# Altium footprint library CONECTER.PcbLib: 145 footprints (part 7 of 10)
Each footprint in its own frame and in the unit in brackets; x right, y up, seen from the top. Pads: shape width x height; smd on the part's side, far side on the other; paste and mask are expansions set on the pad; w line width, h text height; cw(c..) or ccw(c..) is an arc to the next point about the centre after c.
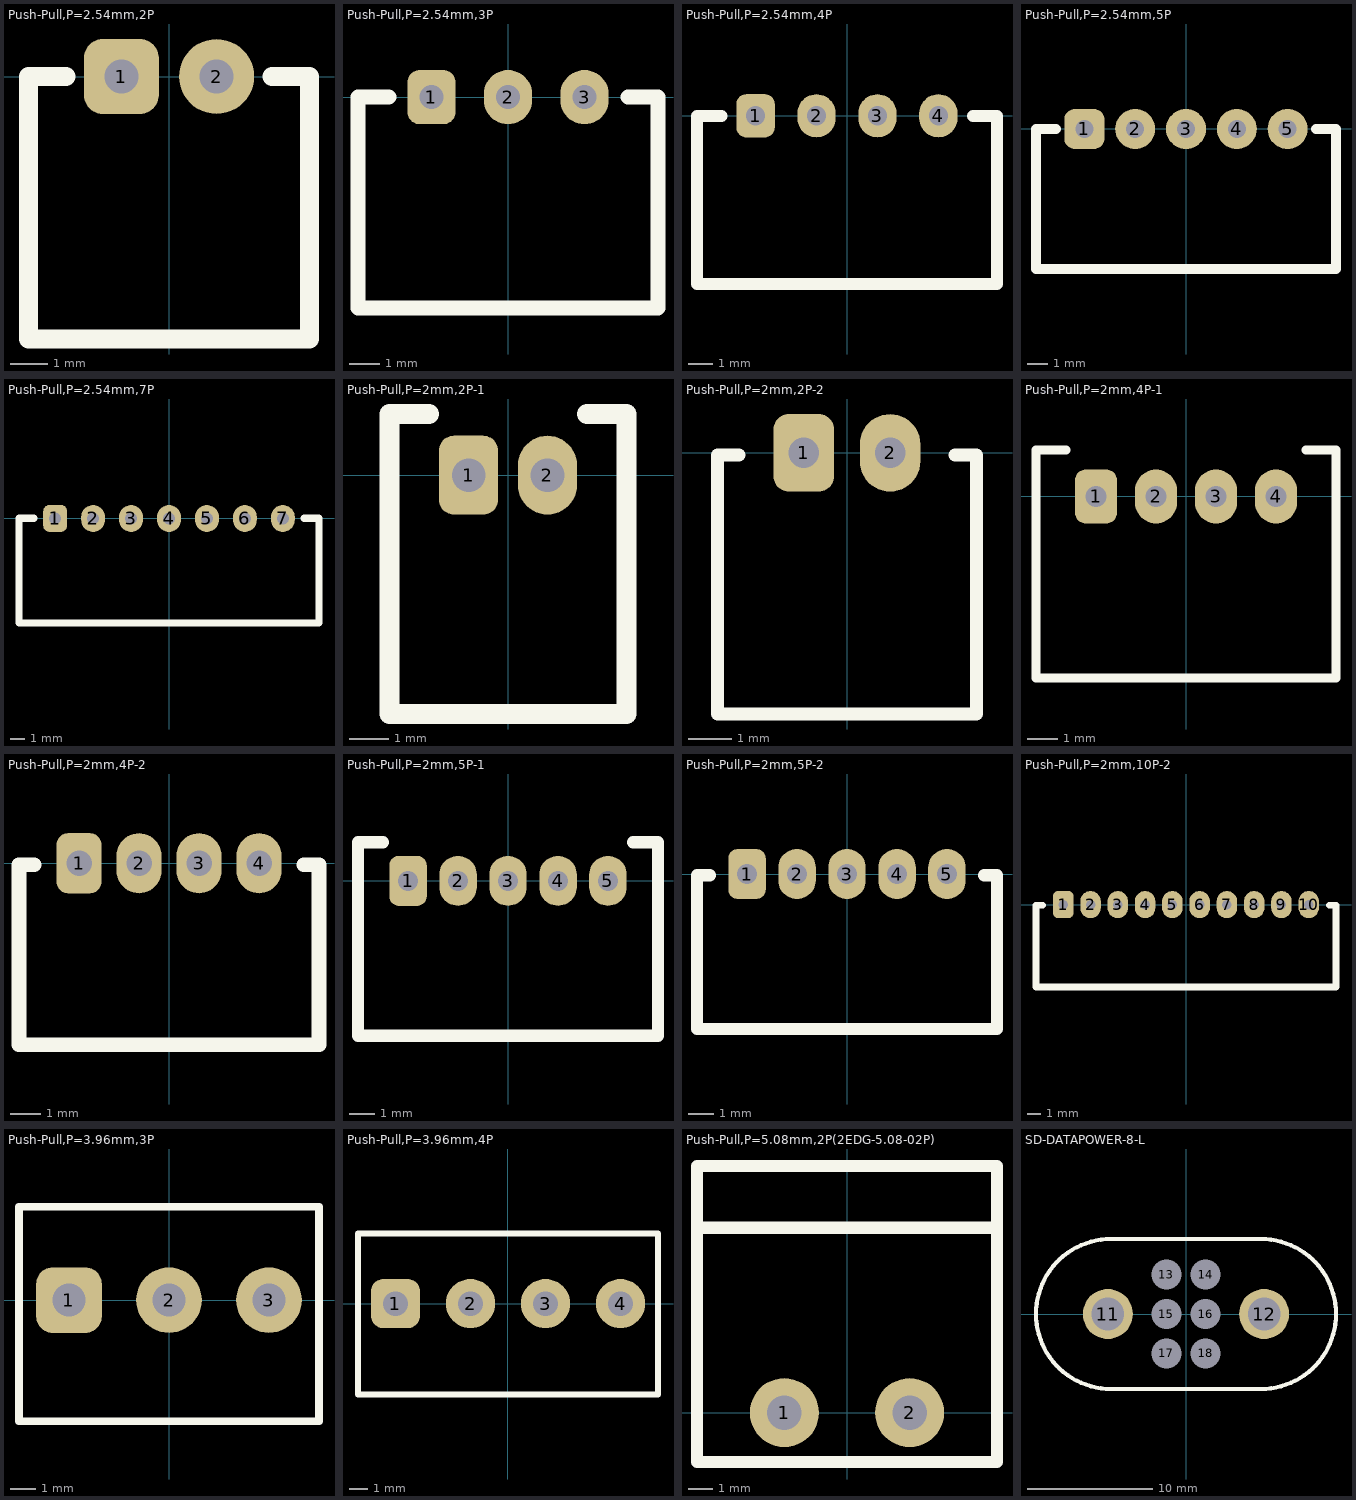
[diagram p6: the footprints below, top view; thin cyan lines are the x and y axes]

## Push-Pull,P=2.54mm,2P [mm]
pads (2):
  rrect50% 2x2 hole 0.9 mask+0.1: 1(-1.27,0)
  round 2 hole 0.9 mask+0.1: 2(1.27,0)
Top Overlay:
  lines w0.5: -2.75,0 -3.75,0 -3.75,-7 3.75,-7 3.75,0 2.75,0
3D body "JST - XH - Thru (R) - 2Pin - 2.54mm.stp": height 5.84, standoff -3.38, extent -3.607,-7.534 3.607,0.503

## Push-Pull,P=2.54mm,3P [mm]
pads (3):
  rrect50% 1.6x1.8 hole 0.8 mask+0.1: 1(-2.54,0)
  oval 1.6x1.8 hole 0.8 mask+0.1: 2(0,0) 3(2.54,0)
Top Overlay:
  lines w0.5: -4.98,0 -4.98,-7 4.98,-7 4.98,0 3.98,0 ; -4.96,0 -3.96,0
3D body "JST - XH - Thru R - 3Pin - 2.54mm.stp": height 5.84, standoff -3.38, extent -4.877,-7.534 4.877,0.503

## Push-Pull,P=2.54mm,4P [mm]
pads (4):
  rrect50% 1.6x1.8 hole 0.8 mask+0.1: 1(-3.81,0)
  oval 1.6x1.8 hole 0.8 mask+0.1: 2(-1.27,0) 3(1.27,0) 4(3.81,0)
Top Overlay:
  lines w0.5: -6.25,0 -6.25,-7 6.25,-7 6.25,0 5.25,0 ; -6.23,0 -5.23,0
3D body "JST - XH - Thru R - 4Pin - 2.54mm.stp": height 5.84, standoff -3.38, extent -6.147,-7.534 6.147,0.503

## Push-Pull,P=2.54mm,5P [mm]
pads (5):
  rrect50% 2x2 hole 0.9 mask+0.1: 1(-5.08,0)
  round 2 hole 0.9 mask+0.1: 2(-2.54,0) 3(0,0) 4(2.54,0) 5(5.08,0)
Top Overlay:
  lines w0.5: -6.5,0 -7.5,0 -7.5,-7 7.5,-7 7.5,0 6.5,0
3D body "JST - XH - Thru R - 5Pin - 2.54mm.stp": height 5.84, standoff -3.38, extent -7.417,-7.534 7.417,0.503

## Push-Pull,P=2.54mm,7P [mm]
pads (7):
  rrect50% 1.6x1.8 hole 0.8 mask+0.1: 1(-7.62,0)
  oval 1.6x1.8 hole 0.8 mask+0.1: 2(-5.08,0) 3(-2.54,0) 4(0,0) 5(2.54,0) 6(5.08,0) 7(7.62,0)
Top Overlay:
  lines w0.5: -9.04,0 -10.04,0 -10.04,-7 10.04,-7 10.04,0 9.04,0
3D body "JST - XH - Thru (R) - 7Pin - 2.54mm.stp": height 5.84, standoff -3.38, extent -9.957,-7.034 9.957,1.003

## Push-Pull,P=2mm,2P-1 [mm]
pads (2):
  rrect50% 1.5x2 hole 0.85: 1(-1,0)
  oval 1.5x2 hole 0.85: 2(1,0)
Top Overlay:
  lines w0.5: -2,1.55 -3,1.55 -3,-6.05 3,-6.05 3,1.55 2,1.55
3D body "JST-S2B-PH-K-S.STEP": height 4.8, standoff -3.4, extent -2.95,-6.1 2.95,1.5

## Push-Pull,P=2mm,2P-2 [mm]
pads (2):
  rrect50% 1.4x1.8 hole 0.7: 1(-1,0)
  oval 1.4x1.8 hole 0.7: 2(1,0)
Top Overlay:
  lines w0.3: -2.5,-0.05 -3,-0.05 -3,-6.05 3,-6.05 3,-0.05 2.5,-0.05
3D body "JST-S2B-PH-K-S.STEP": height 4.8, standoff -3.4, extent -2.95,-6.1 2.95,1.5

## Push-Pull,P=2mm,4P-1 [mm]
pads (4):
  rrect50% 1.4x1.8 hole 0.7: 1(-3,0)
  oval 1.4x1.8 hole 0.7: 2(-1,0) 3(1,0) 4(3,0)
Top Overlay:
  lines w0.3: -4,1.55 -5,1.55 -5,-6.05 5,-6.05 5,1.55 4,1.55
3D body "JST-S4B-PH-K-S.STEP": height 4.8, standoff -3.4, extent -4.95,-6.05 4.95,1.55

## Push-Pull,P=2mm,4P-2 [mm]
pads (4):
  rrect50% 1.5x2 hole 0.85 mask+0.102: 1(-3,0)
  oval 1.5x2 hole 0.85 mask+0.102: 2(-1,0) 3(1,0) 4(3,0)
Top Overlay:
  lines w0.5: -4.5,-0.05 -5,-0.05 -5,-6.05 5,-6.05 5,-0.05 4.5,-0.05
3D body "JST-S4B-PH-K-S.STEP": height 4.8, standoff -3.4, extent -4.95,-6.05 4.95,1.55

## Push-Pull,P=2mm,5P-1 [mm]
pads (5):
  rrect50% 1.5x2 hole 0.8 mask+0.15: 1(-4,0)
  oval 1.5x2 hole 0.8 mask+0.15: 2(-2,0) 3(0,0) 4(2,0) 5(4,0)
Top Overlay:
  lines w0.5: -6,1.4 -6,-6.2 6,-6.2 6,1.4 ; -6,1.55 -5,1.55 ; 5,1.55 6,1.55
3D body "JST-S5B-PH-K-S.STEP": height 4.8, standoff -3.4, extent -5.95,-6 5.95,1.6

## Push-Pull,P=2mm,5P-2 [mm]
pads (5):
  rrect50% 1.5x2 hole 0.8 mask+0.15: 1(-4,0)
  oval 1.5x2 hole 0.8 mask+0.15: 2(-2,0) 3(0,0) 4(2,0) 5(4,0)
Top Overlay:
  lines w0.5: -5.5,-0.05 -6,-0.05 -6,-6.2 6,-6.2 6,-0.05 5.5,-0.05
3D body "JST-S5B-PH-K-S.STEP": height 4.8, standoff -3.4, extent -5.95,-6 5.95,1.6

## Push-Pull,P=2mm,10P-2 [mm]
pads (10):
  rrect50% 1.5x2 hole 0.7 mask+0.15: 1(-9,0)
  oval 1.5x2 hole 0.7 mask+0.15: 2(-7,0) 3(-5,0) 4(-3,0) 5(-1,0) 6(1,0) 7(3,0) 8(5,0) 9(7,0) 10(9,0)
Top Overlay:
  lines w0.5: -10.5,-0.05 -11,-0.05 -11,-6.05 11,-6.05 11,-0.05 10.5,-0.05
3D body "JST-S10B-PH-K-S.STEP": height 4.8, standoff -3.4, extent -10.95,-6.1 10.95,1.5

## Push-Pull,P=3.96mm,3P [mm]
pads (3):
  rrect50% 2.6x2.6 hole 1.3 mask+0.1: 1(-3.96,0)
  round 2.6 hole 1.3 mask+0.1: 2(0,0) 3(3.96,0)
Top Overlay:
  lines w0.3: -5.94,-4.8 -5.94,3.7 5.94,3.7 5.94,-4.8 -5.94,-4.8
3D body "B3P-VH.stp": height 10.9, standoff -3.7, extent -5.91,-4.8 5.91,3.7

## Push-Pull,P=3.96mm,4P [mm]
pads (4):
  rrect50% 2.6x2.6 hole 1.3 mask+0.1: 1(-5.94,0)
  round 2.6 hole 1.3 mask+0.1: 2(-1.98,0) 3(1.98,0) 4(5.94,0)
Top Overlay:
  lines w0.3: -7.92,-4.8 7.92,-4.8 7.92,3.7 -7.92,3.7 -7.92,-4.8
3D body "B4P-VH.stp": height 10.9, standoff -3.7, extent -7.89,-4.8 7.89,3.7

## Push-Pull,P=5.08mm,2P(2EDG-5.08-02P) [mm]
pads (2):
  round 2.8 hole 1.4: 1(-2.54,0) 2(2.54,0)
Top Overlay:
  lines w0.5: -6,7.5 6.06,7.5 ; -6.08,-2 -6.08,10 6.08,10 6.08,-2 -6.08,-2
3D body "2EDG-5.08-02P.STEP": height 3.45, standoff -16.11, extent -5.78,-1.35 5.78,19.73

## SD-DATAPOWER-8-L [mm]
pads (8):
  round 4 hole 2.6: 11(-6.25,0) 12(6.25,0)
  round 1.524 hole 2.4: 13(-1.575,3.15) 14(1.575,3.15) 15(-1.575,0) 16(1.575,0) 17(-1.575,-3.15) 18(1.575,-3.15)
Top Overlay:
  lines w0.33: -12,0 ccw(c-6,0) -6,-6 6,-6 ccw(c6,0) 12,0 ccw(c6,0) 6,6 -6,6 ccw(c-6,0) -12,0
3D body "SD-DATAPOWER-8-L.STEP": height 8.52, standoff -0.33, extent -18.5,-7.4 18.5,7.4